# EAGLE library part 693072010801 (library Input Output Connectors)
CONN MICRO SD CARD HINGED TYPE Manufacturer's datasheet <https://katalog.we-online.de/em/datasheet/693072010801.pdf>
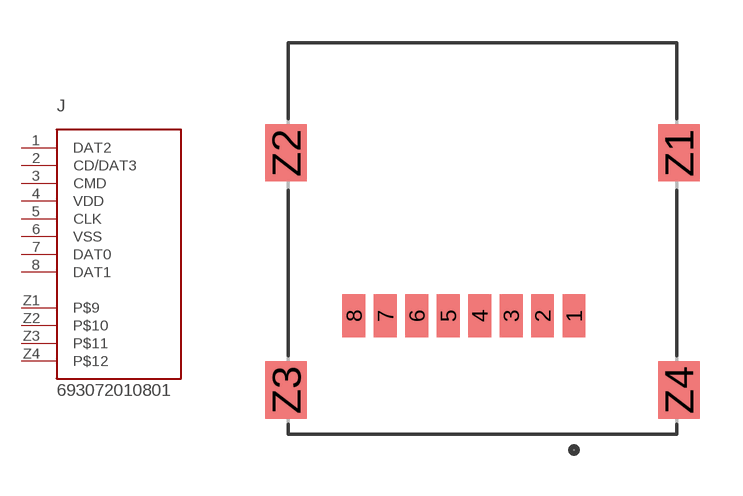
[diagram p4: symbol with the pads of 693072010801; footprint 693072010801]

Designator prefix J

## 693072010801 (CREATED_BY: PCBLayout.com; DIGIKEY_PART_NUMBER: 732-3820-2-ND; MANUFACTURER: Wurth Electronics Inc.; MPN: 693072010801)  [693072010801]
1  DAT2
2  CD/DAT3
3  CMD
4  VDD
5  CLK
6  VSS
7  DAT0
8  DAT1
Z1  P$9
Z2  P$10
Z3  P$11
Z4  P$12

## Footprint 693072010801 (pad centres in mm)
smd 0.8 x 1.5: 1 3.85,0; 2 2.75,0; 3 1.65,0; 4 0.55,0; 5 -0.55,0; 6 -1.65,0; 7 -2.75,0; 8 -3.85,0
smd 1.45 x 2: Z1 7.525,5.7; Z2 -6.225,5.7; Z3 -6.225,-2.6; Z4 7.525,-2.6